# Altium schematic symbol library 78xx.SchLib: 1 symbol
Pins are listed as number, name and electrical type; pins without a type are passive.

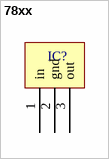
[diagram p0: symbol 78xx]

## 78xx
designator IC?, comment 78xx?  (value not drawn)
footprint 78xx
pins: 1 in, 2 gnd, 3 out